# EAGLE library part NTX2 (library Pi weerballon)
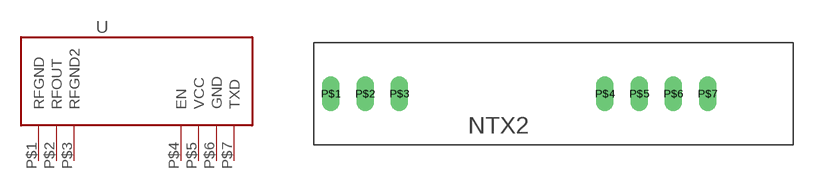
[diagram p0: symbol with the pads of NTX2; footprint NTX2]

Designator prefix -

## NTX2  [NTX2]
P$1  RFGND  pas
P$2  RFOUT  pas
P$3  RFGND2  pas
P$4  EN
P$5  VCC  pwr
P$6  GND  pwr
P$7  TXD  in

## Footprint NTX2 (pad centres in mm)
drill 0.8 long: P$1 -10.16,0; P$2 -7.62,0; P$3 -5.08,0; P$4 10.16,0; P$5 12.7,0; P$6 15.24,0; P$7 17.78,0